# EAGLE library part UCC21542DWK (library 3D_MIG_Controller)
Gate Driver, Dual Channel, with Reinforced Isolation, SOIC-16 High Volt Package
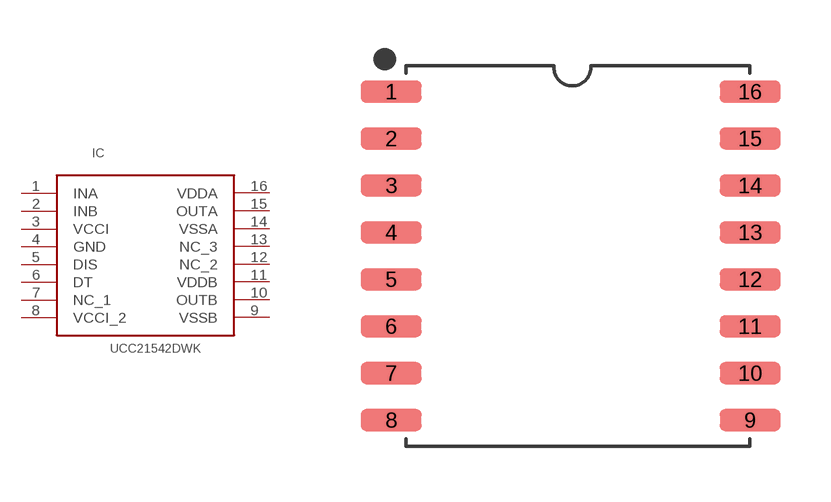
[diagram p60: symbol with the pads of SOIC16_HV; footprint SOIC16_HV]

Designator prefix IC

## UCC21542DWK  [SOIC16_HV]
1  INA
2  INB
3  VCCI
4  GND
5  DIS
6  DT
7  NC_1
8  VCCI_2
9  VSSB
10  OUTB
11  VDDB
12  NC_2
13  NC_3
14  VSSA
15  OUTA
16  VDDA

## Footprint SOIC16_HV (pad centres in mm)
SOIC-16 Wide, creepage 8.1mm
smd 1.65 x 0.6: 1 -4.855,4.445; 2 -4.855,3.175; 3 -4.855,1.905; 4 -4.855,0.635; 5 -4.855,-0.635; 6 -4.855,-1.905; 7 -4.855,-3.175; 8 -4.855,-4.445; 9 4.855,-4.445; 10 4.855,-3.175; 11 4.855,-1.905; 12 4.855,-0.635; 13 4.855,0.635; 14 4.855,1.905; 15 4.855,3.175; 16 4.855,4.445